# Altium schematic symbol library lyThuyetMach.SchLib: 11 symbols
Pins are listed as number, name and electrical type; pins without a type are passive.

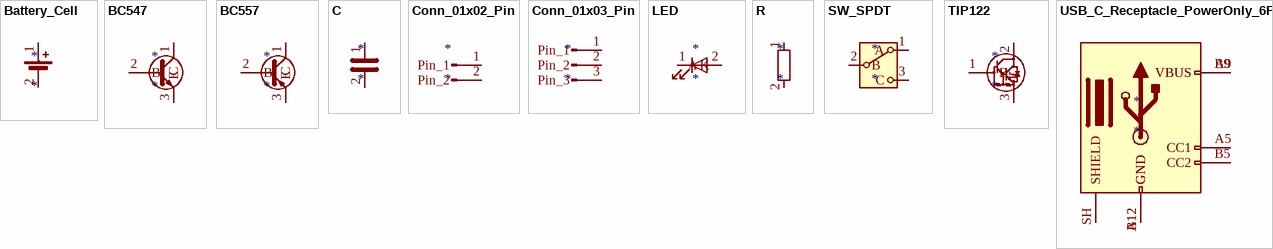
[diagram p0: symbols Battery_Cell to USB_C_Receptacle_PowerOnly_6P]

## Battery_Cell
designator *
pins: 1 +, 2 -

## BC547
designator *
pins: 1 C, 2 B, 3 E

## BC557
designator *
pins: 1 C, 2 B, 3 E

## C
designator *
pins: 1, 2

## Conn_01x02_Pin
designator *
pins: 1 Pin_1, 2 Pin_2

## Conn_01x03_Pin
designator *
pins: 1 Pin_1, 2 Pin_2, 3 Pin_3

## LED
designator *
pins: 1 K, 2 A

## R
designator *
pins: 1, 2

## SW_SPDT
designator *
pins: 1 A, 2 B, 3 C

## TIP122
designator *
pins: 1 B, 2 C, 3 E

## USB_C_Receptacle_PowerOnly_6P
designator *
pins: A5 CC1, A9 VBUS, A12 GND, B5 CC2, B9 VBUS, B12 GND, SH SHIELD